# Altium footprint library 2SCR502EBHZGTL.PcbLib: 3 footprints
Each footprint in its own frame and in the unit in brackets; x right, y up, seen from the top. Pads: shape width x height; smd on the part's side, far side on the other; paste and mask are expansions set on the pad; w line width, h text height; cw(c..) or ccw(c..) is an arc to the next point about the centre after c.
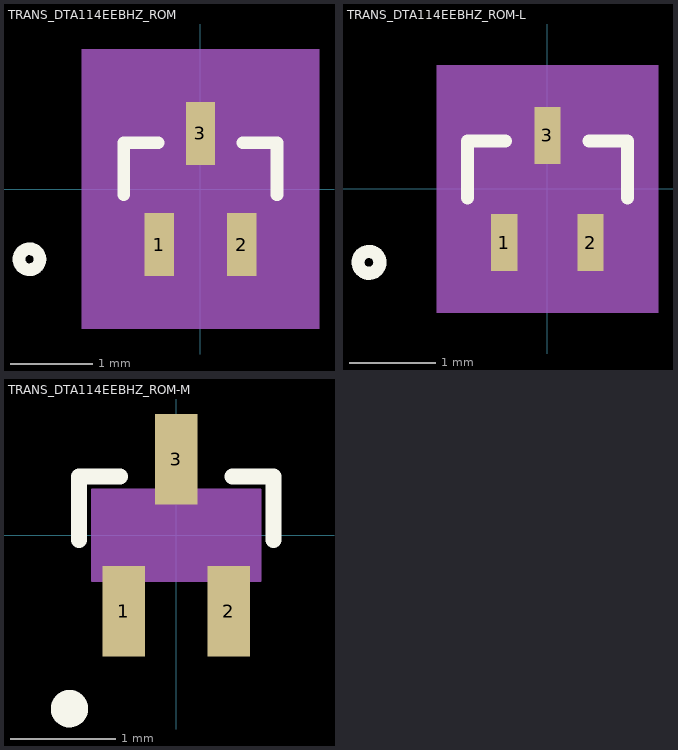
[diagram p0: the footprints below, top view; thin cyan lines are the x and y axes]

## TRANS_DTA114EEBHZ_ROM [mil]
pads (3):
  rect 14x30 smd paste+0 mask+0: 1(-19.68,-26.5) 2(19.68,-26.5) 3(0,26.5)
Top Overlay:
  circle w6: c-81.5,-33.5 r5
  lines w6: -36.5,-2.82 -36.5,22 -20.1,22 ; 20.1,22 36.5,22 36.5,-2.82
Mechanical 5:
  region: -56.5,66.5 56.5,66.5 56.5,-66.5 -56.5,-66.5
Mechanical 13:
  circle w0: c-21.5,-7 r5
  lines w1: -31.5,-17 31.5,-17 31.5,17 -31.5,17 -31.5,-17 ; -26.68,-33.5 -26.68,-17 -12.69,-17 -12.69,-33.5 -26.68,-33.5 ; -7,17 7,17 7,33.5 -7,33.5 -7,17 ; 12.69,-33.5 12.69,-17 26.68,-17 26.68,-33.5 12.69,-33.5
Mechanical 15:
  region: -41.5,-27 -41.5,27 -17,27 -17,51.5 17,51.5 17,27 41.5,27 41.5,-27 36.69,-27 36.69,-51.5 -36.69,-51.5 -36.69,-27
  region: 31.5,-17 -31.5,-17 -31.5,17 31.5,17
  lines w6: -41.5,-27 -41.5,27 -17,27 -17,51.5 17,51.5 17,27 41.5,27 41.5,-27 36.69,-27 36.69,-51.5 -36.69,-51.5 -36.69,-27 -41.5,-27
3D body "TRANS_DTA114EEBHZ_ROM.step": height 35.12, standoff 0, extent -31.5,-33.5 31.5,33.5

## TRANS_DTA114EEBHZ_ROM-L [mil]
pads (3):
  rect 12x26 smd paste+0 mask+0: 1(-19.68,-24.5) 2(19.68,-24.5) 3(0,24.5)
Top Overlay:
  circle w6: c-81.5,-33.5 r5
  lines w6: -36.5,-4.11 -36.5,22 -19.1,22 ; 19.1,22 36.5,22 36.5,-4.11
Mechanical 5:
  region: -50.5,56.5 50.5,56.5 50.5,-56.5 -50.5,-56.5
Mechanical 13:
  circle w0: c-21.5,-7 r5
  lines w1: -31.5,-17 31.5,-17 31.5,17 -31.5,17 -31.5,-17 ; -26.68,-33.5 -26.68,-17 -12.69,-17 -12.69,-33.5 -26.68,-33.5 ; -7,17 7,17 7,33.5 -7,33.5 -7,17 ; 12.69,-33.5 12.69,-17 26.68,-17 26.68,-33.5 12.69,-33.5
Mechanical 15:
  region: -35.5,-21 -35.5,21 -11,21 -11,41.5 11,41.5 11,21 35.5,21 35.5,-21 30.68,-21 30.68,-41.5 -30.68,-41.5 -30.68,-21
  region: 31.5,-17 -31.5,-17 -31.5,17 31.5,17
  lines w6: -35.5,-21 -35.5,21 -10,21 -10,41.5 10,41.5 10,21 35.5,21 35.5,-21 29.68,-21 29.68,-41.5 -29.68,-41.5 -29.68,-21 -35.5,-21
3D body "TRANS_DTA114EEBHZ_ROM.step": height 35.12, standoff 0, extent -31.5,-33.5 31.5,33.5

## TRANS_DTA114EEBHZ_ROM-M [mil]
pads (3):
  rect 16x34 smd paste+0 mask+0: 1(-19.68,-28.5) 2(19.68,-28.5) 3(0,28.5)
Top Overlay:
  lines w6: -36.5,-1.81 -36.5,22 -21.1,22 ; 21.1,22 36.5,22 36.5,-1.81
  lines w10: -37.98,-65 cw(c-40,-65) -37.99,-64.83
Mechanical 13:
  circle w0: c-21.5,-7 r5
  lines w1: -31.5,-17 -31.5,17 31.5,17 31.5,-17 -31.5,-17 ; -26.68,-33.5 -12.69,-33.5 -12.69,-17 -26.68,-17 -26.68,-33.5 ; -7,17 -7,33.5 7,33.5 7,17 -7,17 ; 12.69,-33.5 26.68,-33.5 26.68,-17 12.69,-17 12.69,-33.5
Mechanical 15:
  region: 31.5,-17 -31.5,-17 -31.5,17 31.5,17
3D body "TRANS_DTA114EEBHZ_ROM.step": height 35.12, standoff 0, extent -31.5,-33.5 31.5,33.5